# Altium footprint library Misc.PcbLib: 5 footprints
Each footprint in its own frame and in the unit in brackets; x right, y up, seen from the top. Pads: shape width x height; smd on the part's side, far side on the other; paste and mask are expansions set on the pad; w line width, h text height; cw(c..) or ccw(c..) is an arc to the next point about the centre after c.
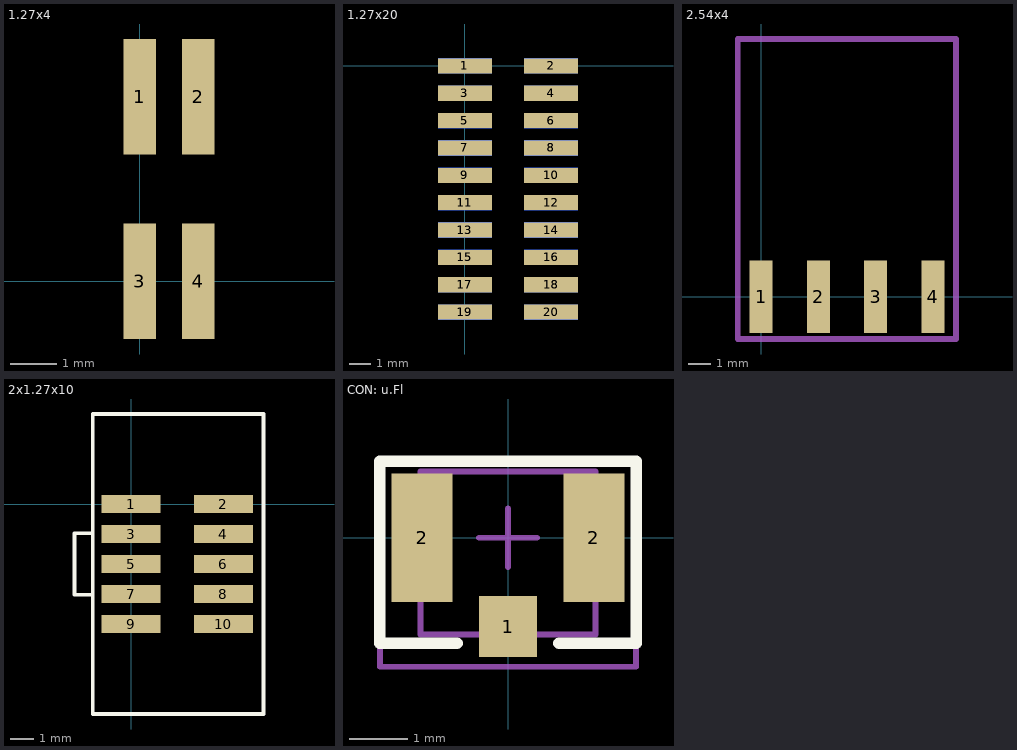
[diagram p0: the footprints below, top view; thin cyan lines are the x and y axes]

## 1.27x4 [mm]
pads (4):
  rect 0.7x2.5 smd: 1(0,4) 2(1.27,4) 3(0,0) 4(1.27,0)

## 1.27x20 [mm]
pads (40):
  rect 2.5x0.7 smd: 1(0,0) 2(4,0) 3(0,-1.27) 4(4,-1.27) 5(0,-2.54) 6(4,-2.54) 7(0,-3.81) 8(4,-3.81) 9(0,-5.08) 10(4,-5.08) 11(0,-6.35) 12(4,-6.35) 13(0,-7.62) 14(4,-7.62) 15(0,-8.89) 16(4,-8.89) 17(0,-10.16) 18(4,-10.16) 19(0,-11.43) 20(4,-11.43)
  rect 2.5x0.7 smd far side: 1(0,0) 2(4,0) 3(0,-1.27) 4(4,-1.27) 5(0,-2.54) 6(4,-2.54) 7(0,-3.81) 8(4,-3.81) 9(0,-5.08) 10(4,-5.08) 11(0,-6.35) 12(4,-6.35) 13(0,-7.62) 14(4,-7.62) 15(0,-8.89) 16(4,-8.89) 17(0,-10.16) 18(4,-10.16) 19(0,-11.43) 20(4,-11.43)

## 2.54x4 [mm]
pads (4):
  rect 1.02x3.2 smd: 1(0,0) 2(2.54,0) 3(5.08,0) 4(7.62,0)
Mechanical 15:
  lines w0.254: -1.038,-1.875 -1.038,11.425 8.637,11.425 8.637,-1.875 -1.038,-1.875

## 2x1.27x10 [mm]
pads (10):
  rect 2.5x0.76 smd: 1(0,0) 2(3.9,0) 3(0,-1.27) 4(3.9,-1.27) 5(0,-2.54) 6(3.9,-2.54) 7(0,-3.81) 8(3.9,-3.81) 9(0,-5.08) 10(3.9,-5.08)
Top Overlay:
  lines w0.152: -1.63,-3.84 -1.63,-8.89 5.6,-8.89 5.6,3.81 -1.63,3.81 -1.63,-1.23 ; -1.63,-3.84 -2.4,-3.84 -2.4,-1.23 -1.63,-1.23 ; -1.63,-3.84 -1.63,-1.23

## CON: u.Fl [mm]
height 1.5
pads (3):
  rect 1x1.05 smd: 1(0,-1.525)
  rect 1.05x2.2 smd: 2(-1.475,0) 2(1.475,0)
Top Overlay:
  lines w0.2: -0.875,-1.813 -2.2,-1.813 -2.2,1.312 2.2,1.312 2.2,-1.813 0.875,-1.813
Mechanical 1:
  lines w0.1: -1.5,-1.663 1.5,-1.663 1.5,1.137 -1.5,1.137 -1.5,-1.663
Mechanical 15:
  lines w0.1: -0.5,0 0.5,0 ; 0,-0.5 0,0.5 ; -2.2,-2.213 -2.2,1.312 2.2,1.312 2.2,-2.213 -2.2,-2.213
3D body "IPX.step": height 1.27, standoff -0.01, extent -1.5,-1.712 1.5,1.138